# Altium footprint library orthofixture.PcbLib: 65 footprints (part 4 of 5)
Each footprint in its own frame and in the unit in brackets; x right, y up, seen from the top. Pads: shape width x height; smd on the part's side, far side on the other; paste and mask are expansions set on the pad; w line width, h text height; cw(c..) or ccw(c..) is an arc to the next point about the centre after c.
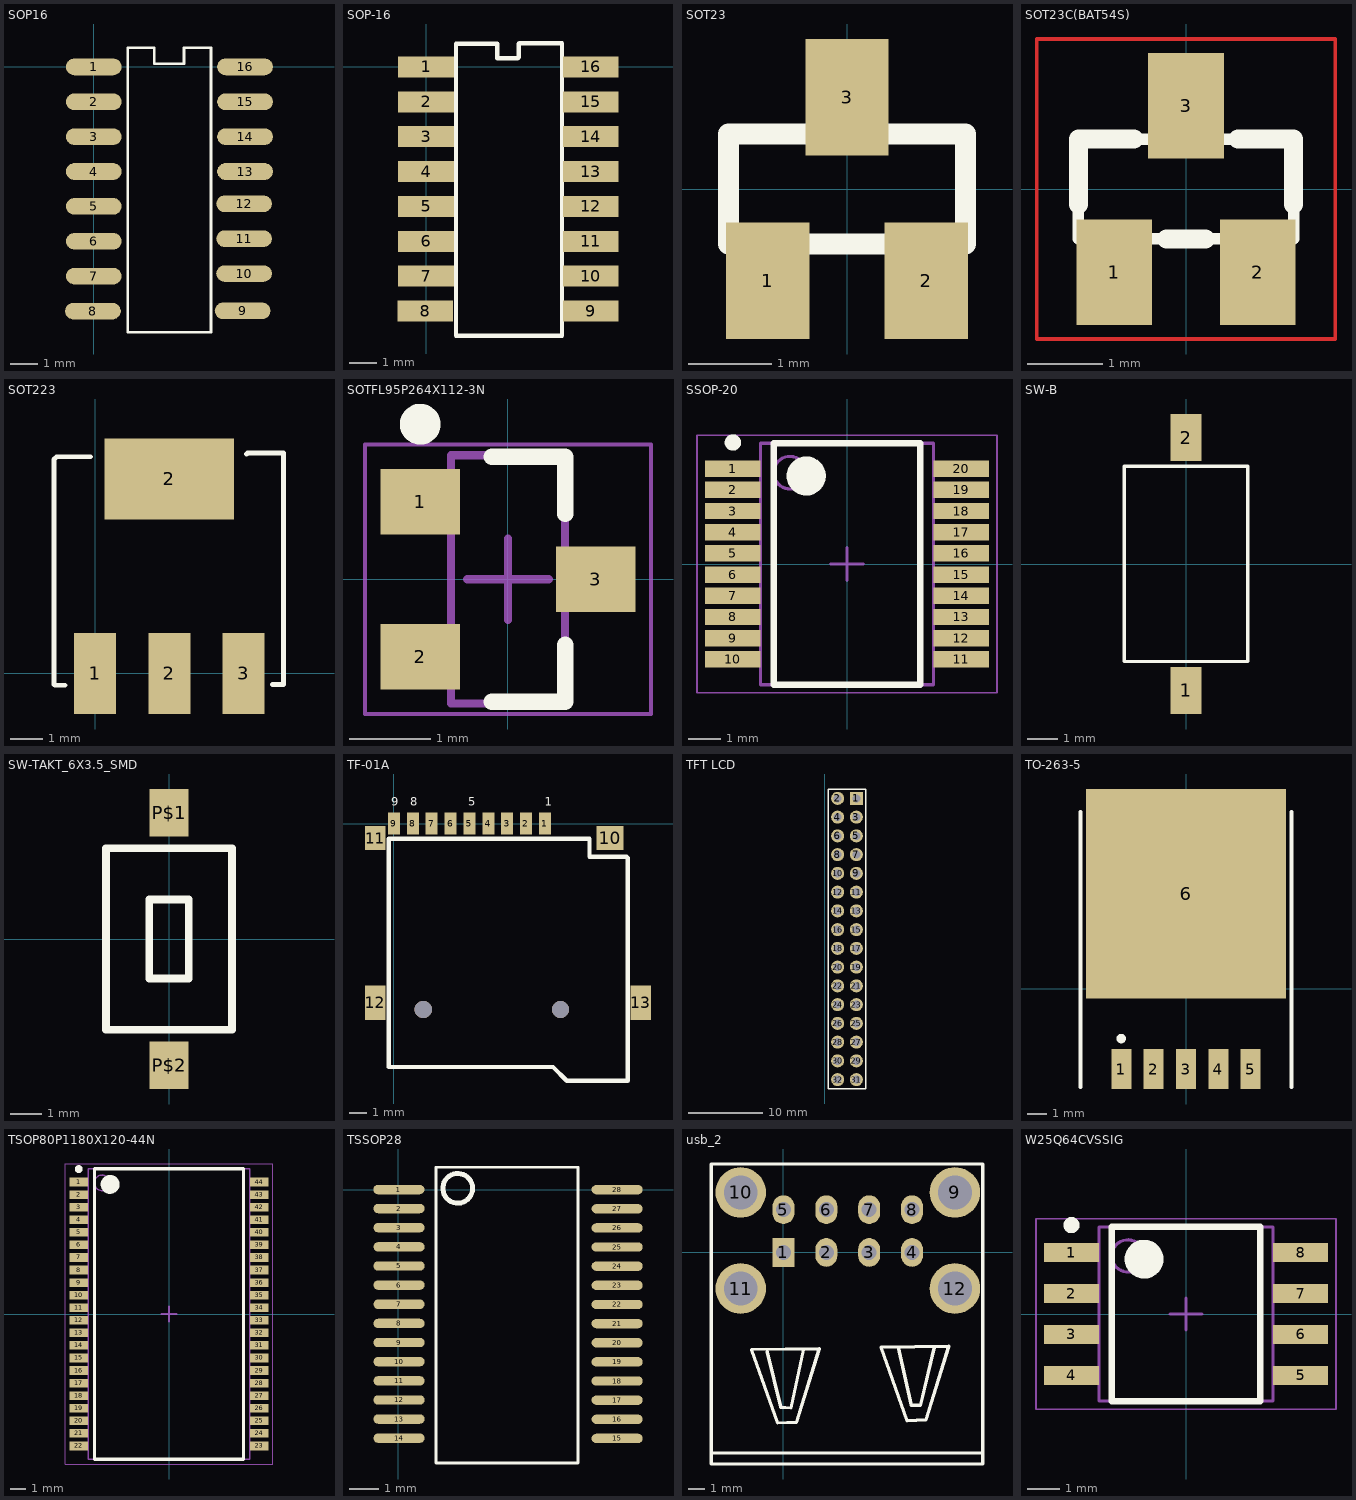
[diagram p3: the footprints below, top view; thin cyan lines are the x and y axes]

## SOP16 [mil]
height 27.56
pads (16):
  oval 80x24 smd: 1(-0.08,-0.08) 2(-0.08,-50.08) 3(-0.08,-100.08) 4(-0.08,-150.07) 13(216.77,-150.08) 14(216.77,-100.08) 15(216.77,-50.08) 16(216.77,-0.08)
  oval 80x23.62 smd: 5(-0.08,-200.07) 6(-0.08,-250.07) 7(-0.08,-300.07) 8(-1.33,-350.25) 9(213.28,-349.89) 10(215.38,-296.37) 11(215.38,-246.37) 12(215.38,-196.38)
Top Overlay:
  lines w3.94: 48.7,-380.43 48.7,27.52 86.42,27.52 86.42,4.49 129.09,4.49 129.09,27.28 168.11,27.28 168.11,-380.43 48.7,-380.43

## SOP-16 [mil]
height 609.84
pads (16):
  rect 80x30 smd: 1(0,0) 2(0,-50) 3(0,-100) 4(0,-150) 5(0,-200) 6(0,-250) 7(0,-300) 8(-1.25,-350) 9(236.22,-350) 10(236.22,-300) 11(236.22,-250) 12(236.22,-200) 13(236.22,-150) 14(236.22,-100) 15(236.22,-50) 16(236.22,0)
Top Overlay:
  lines w6: 42.94,-385.23 42.94,33.19 102.21,33.19 102.21,12.4 131.5,12.4 132.91,13.82 132.91,33.19 133.62,33.9 195.08,33.9 195.08,-385.23 42.94,-385.23

## SOT23 [mm]
pads (3):
  rect 1x1.4 smd: 1(-0.95,-1.1) 2(0.95,-1.1) 3(0,1.1)
Top Overlay:
  lines w0.254: -1.422,-0.66 -1.422,0.66 1.422,0.66 1.422,-0.66 -1.422,-0.66

## SOT23C(BAT54S) [mm]
pads (3):
  rect 1x1.4 smd: 1(-0.95,-1.1) 2(0.95,-1.1) 3(0,1.1)
Top Layer:
  lines w0.051: -1.973,-1.983 1.973,-1.983 1.973,1.983 -1.973,1.983 -1.973,-1.983
Top Overlay:
  lines w0.152: -1.422,-0.66 1.422,-0.66 1.422,0.66 -1.422,0.66 -1.422,-0.66
  lines w0.254: -1.422,-0.203 -1.422,0.66 -0.686,0.66 ; -0.254,-0.66 0.254,-0.66 ; 0.686,0.66 1.422,0.66 1.422,-0.203

## SOT223 [mm]
height 15.49
pads (4):
  rect 1.3x2.5 smd: 1(0,0) 2(2.29,0) 3(4.58,0)
  rect 4x2.5 smd: 2(2.29,6)
Top Overlay:
  lines w0.15: -0.931,-0.365 -1.243,-0.365 -1.271,-0.337 -1.271,6.597 -1.186,6.682 -0.139,6.682 ; 4.673,6.767 4.701,6.795 5.805,6.795 5.805,-0.337 5.465,-0.337

## SOTFL95P264X112-3N [mm] "SOTFL, 3-Leads, Body 2.92x2.64mm, Pitch 0.95mm, IPC Medium Density"
height 1.12
pads (3):
  rect 0.972x0.8 smd: 1(-1.075,0.95) 2(-1.075,-0.95) 3(1.075,0)
Top Overlay:
  circle w0.25: c-1.075,1.9 r0.125
  lines w0.2: -0.2,-1.5 0.7,-1.5 0.7,-0.8 ; -0.2,1.5 0.7,1.5 0.7,0.8
Mechanical 13:
  lines w0.1: -0.7,-1.52 0.7,-1.52 0.7,1.52 -0.7,1.52 -0.7,-1.52
Mechanical 15:
  lines w0.05: -1.75,-1.65 1.75,-1.65 1.75,1.65 -1.75,1.65 -1.75,-1.65
  lines w0.1: -0.5,0 0.5,0 ; 0,-0.5 0,0.5
3D body: height 1.12, standoff 0, extent -0.7,-1.52 0.7,1.52

## SSOP-20 [mm] "SOP, 20-Leads, Body 7.20x5.30mm, Pitch 0.65mm, IPC Medium Density"
height 1.73
pads (20):
  rect 1.7x0.5 smd: 1(-3.5,2.925) 2(-3.5,2.275) 3(-3.5,1.625) 4(-3.5,0.975) 5(-3.5,0.325) 6(-3.5,-0.325) 7(-3.5,-0.975) 8(-3.5,-1.625) 9(-3.5,-2.275) 10(-3.5,-2.925) 11(3.5,-2.925) 12(3.5,-2.275) 13(3.5,-1.625) 14(3.5,-0.975) 15(3.5,-0.325) 16(3.5,0.325) 17(3.5,0.975) 18(3.5,1.625) 19(3.5,2.275) 20(3.5,2.925)
Top Overlay:
  circle w0.6: c-1.25,2.7 r0.3
  circle w0.25: c-3.5,3.725 r0.125
  lines w0.2: -2.25,-3.7 2.25,-3.7 2.25,3.7 -2.25,3.7 -2.25,-3.7
Mechanical 13:
  circle w0.1: c-1.75,2.8 r0.5
  lines w0.1: -2.65,-3.7 2.65,-3.7 2.65,3.7 -2.65,3.7 -2.65,-3.7
Mechanical 15:
  lines w0.05: -4.6,-3.95 4.6,-3.95 4.6,3.95 -4.6,3.95 -4.6,-3.95
  lines w0.1: -0.5,0 0.5,0 ; 0,-0.5 0,0.5
3D body: height 1.73, standoff 0.23, extent -2.65,-3.7 2.65,3.7

## SW-B [mil]
height 609.84
pads (2):
  rect 40x60 smd: 1(0,-161.42) 2(0,161.42)
Top Overlay:
  lines w4: -78.74,-124.56 78.74,-124.56 78.74,124.73 -78.74,124.73 -78.74,-124.56

## SW-TAKT_6X3.5_SMD [mil]
pads (2):
  rect 50x60 smd: P$1(0,160) P$2(0,-160)
Top Overlay:
  lines w10: -80,-115 -80,115 80,115 80,-115 -80,-115 ; -25,-50 -25,50 25,50 25,-50 -25,-50

## TF-01A [mm] "TF CARD SOCKET"
height 1.8
pads (13):
  rect 0.7x1.3 smd: 1(8.8,0) 2(7.7,0) 3(6.6,0) 4(5.5,0) 5(4.4,0) 6(3.3,0) 7(2.2,0) 8(1.1,0) 9(0,0)
  rect 1.6x1.4 smd: 10(12.6,-0.85)
  rect 1.2x1.4 smd mask+0.102: 11(-1.1,-0.85)
  rect 1.2x2 smd: 12(-1.1,-10.45) 13(14.4,-10.45)
via 9.71,-10.85 diameter 1 hole 1
via 1.71,-10.85 diameter 1 hole 1
Top Overlay:
  lines w0.254: -0.305,-14.199 4.902,-14.199 7.214,-14.199 ; -0.305,-14.179 -0.305,-0.889 11.405,-0.889 11.405,-1.93 13.564,-1.93 13.64,-2.007 13.64,-15.007 11.532,-15.007 10.079,-15.007 9.271,-14.199 7.036,-14.199
  text "5" at 4.343,1.041 h0.5
  text "9" at -0.152,1.041 h0.5
  text "8" at 0.94,1.041 h0.5
  text "1" at 8.788,1.041 h0.5

## TFT LCD [mil] "TFT LCD 320x240"
height 787.4
pads (32):
  rect 70x70 hole 43.31: 1(170,-509)
  round 70 hole 43.31: 2(70,-509) 3(170,-609) 4(70,-609) 5(170,-709) 6(70,-709) 7(170,-809) 8(70,-809) 9(170,-909) 10(70,-909) 11(170,-1009) 12(70,-1009) 13(170,-1109) 14(70,-1109) 15(170,-1209) 16(70,-1209) 17(170,-1309) 18(70,-1309) 19(170,-1409) 20(70,-1409) 21(170,-1509) 22(70,-1509) 23(170,-1609) 24(70,-1609) 25(170,-1709) 26(70,-1709) 27(170,-1809) 28(70,-1809) 29(170,-1909) 30(70,-1909) 31(170,-2009) 32(70,-2009)
Top Overlay:
  lines w7.87: 19.99,-2059 29,-2059 70,-2059 220,-2059 220,-2043 220,-459 70,-459 20,-459 20,-468.99 19.99,-2059

## TO-263-5 [mm] "贴?"
height 4.65
pads (6):
  rect 1.05x2.1 smd: 1(-3.4,-4.225) 2(-1.7,-4.225) 3(0,-4.225) 4(1.7,-4.225) 5(3.4,-4.225)
  rect 10.5x11 smd: 6(0,4.987)
Top Overlay:
  circle w0.25: c-3.4,-2.625 r0.125
  lines w0.2: -5.55,-5.175 -5.55,9.275 ; 5.55,-5.175 5.55,9.275
3D body: height 3, standoff 0, extent -5.334,-0.508 5.334,9.271
3D body: height 1, standoff 0, extent -5.334,9.271 5.334,10.287
3D body: height 0.6, standoff 0, extent -3.81,-4.699 -2.921,-0.508
3D body: height 0.6, standoff 0, extent -2.159,-4.699 -1.27,-0.508
3D body: height 0.6, standoff 0, extent -0.508,-4.699 0.381,-0.508
3D body: height 0.6, standoff 0, extent 1.27,-4.699 2.159,-0.508
3D body: height 0.6, standoff 0, extent 2.921,-4.699 3.81,-0.508

## TSOP80P1180X120-44N [mm] "TSOP, 44-Leads, Body 18.41x10.16mm, Pitch 0.80mm, IPC Medium Density"
height 1.2
pads (44):
  rect 1.2x0.55 smd: 1(-5.75,8.4) 2(-5.75,7.6) 3(-5.75,6.8) 4(-5.75,6) 5(-5.75,5.2) 6(-5.75,4.4) 7(-5.75,3.6) 8(-5.75,2.8) 9(-5.75,2) 10(-5.75,1.2) 11(-5.75,0.4) 12(-5.75,-0.4) 13(-5.75,-1.2) 14(-5.75,-2) 15(-5.75,-2.8) 16(-5.75,-3.6) 17(-5.75,-4.4) 18(-5.75,-5.2) 19(-5.75,-6) 20(-5.75,-6.8) 21(-5.75,-7.6) 22(-5.75,-8.4) 23(5.75,-8.4) 24(5.75,-7.6) 25(5.75,-6.8) 26(5.75,-6) 27(5.75,-5.2) 28(5.75,-4.4) 29(5.75,-3.6) 30(5.75,-2.8) 31(5.75,-2) 32(5.75,-1.2) 33(5.75,-0.4) 34(5.75,0.4) 35(5.75,1.2) 36(5.75,2) 37(5.75,2.8) 38(5.75,3.6) 39(5.75,4.4) 40(5.75,5.2) 41(5.75,6) 42(5.75,6.8) 43(5.75,7.6) 44(5.75,8.4)
Top Overlay:
  circle w0.6: c-3.75,8.25 r0.3
  circle w0.25: c-5.75,9.225 r0.125
  lines w0.2: -4.75,-9.25 4.75,-9.25 4.75,9.25 -4.75,9.25 -4.75,-9.25
Mechanical 13:
  circle w0.1: c-4.25,8.35 r0.5
  lines w0.1: -5.15,-9.25 5.15,-9.25 5.15,9.25 -5.15,9.25 -5.15,-9.25
Mechanical 15:
  lines w0.05: -6.6,-9.55 6.6,-9.55 6.6,9.55 -6.6,9.55 -6.6,-9.55
  lines w0.1: -0.5,0 0.5,0 ; 0,-0.5 0,0.5
3D body: height 1.2, standoff 0.15, extent -5.15,-9.25 5.15,9.25

## TSSOP28 [mm]
height 0.7
pads (28):
  oval 1.75x0.32 smd: 1(0.014,-0.001) 2(0.019,-0.651) 3(0.019,-1.305) 4(0.019,-1.96) 5(0.019,-2.614) 6(0.019,-3.269) 7(0.019,-3.923) 8(0.019,-4.578) 9(0.019,-5.232) 10(0.019,-5.887) 11(0.019,-6.541) 12(0.019,-7.196) 13(0.019,-7.85) 14(0.019,-8.505) 15(7.479,-8.512) 16(7.479,-7.857) 17(7.479,-7.203) 18(7.479,-6.548) 19(7.479,-5.894) 20(7.479,-5.239) 21(7.479,-4.585) 22(7.479,-3.93) 23(7.479,-3.276) 24(7.479,-2.621) 25(7.479,-1.967) 26(7.479,-1.312) 27(7.479,-0.658) 28(7.479,-0.003)
Top Overlay:
  circle w0.17: c2.027,0.042 r0.509
  lines w0.1: 1.284,-9.353 1.284,0.763 6.138,0.763 6.138,-0.259 6.138,-9.353 1.284,-9.353

## usb_2 [mm]
height 12.75
pads (12):
  rect 1.3x1.7 hole 0.889: 1(0,0)
  oval 1.3x1.7 hole 0.889: 2(2.54,0) 3(5.08,0) 4(7.62,0) 5(0,2.54) 6(2.54,2.54) 7(5.08,2.54) 8(7.62,2.54)
  round 3 hole 2: 9(10.165,3.562) 10(-2.535,3.562) 11(-2.535,-2.138) 12(10.165,-2.138)
Top Overlay:
  lines w0.2: -4.285,-11.885 11.816,-11.885 11.816,-11.979 ; -0.962,-5.894 -0.166,-9.17 0.442,-9.217 1.191,-5.753 ; 6.808,-5.613 7.58,-9.053 8.119,-9.053 8.938,-5.636 ; -4.285,-12.54 -4.285,5.246 11.816,5.246 11.816,-12.54 -4.285,-12.54 ; -1.898,-5.753 -0.353,-10.106 0.77,-10.059 2.127,-5.707 -1.898,-5.753 ; 5.778,-5.613 7.323,-9.966 8.446,-9.919 9.804,-5.566 5.778,-5.613

## W25Q64CVSSIG [mm]
height 2.16
pads (8):
  rect 1.7x0.6 smd: 1(-3.55,1.905) 2(-3.55,0.635) 3(-3.55,-0.635) 4(-3.55,-1.905) 5(3.55,-1.905) 6(3.55,-0.635) 7(3.55,0.635) 8(3.55,1.905)
Top Overlay:
  circle w0.6: c-1.3,1.7 r0.3
  circle w0.25: c-3.55,2.755 r0.125
  lines w0.2: -2.3,-2.7 2.3,-2.7 2.3,2.7 -2.3,2.7 -2.3,-2.7
Mechanical 13:
  circle w0.1: c-1.8,1.8 r0.5
  lines w0.1: -2.7,-2.7 2.7,-2.7 2.7,2.7 -2.7,2.7 -2.7,-2.7
Mechanical 15:
  lines w0.05: -4.65,-2.95 4.65,-2.95 4.65,2.95 -4.65,2.95 -4.65,-2.95
  lines w0.1: -0.5,0 0.5,0 ; 0,-0.5 0,0.5
3D body: height 2.16, standoff 0.25, extent -2.7,-2.7 2.7,2.7